# Altium footprint library HJ-185IMH PCB库.PcbLib: 1 footprints
Each footprint in its own frame and in the unit in brackets; x right, y up, seen from the top. Pads: shape width x height; smd on the part's side, far side on the other; paste and mask are expansions set on the pad; w line width, h text height; cw(c..) or ccw(c..) is an arc to the next point about the centre after c.
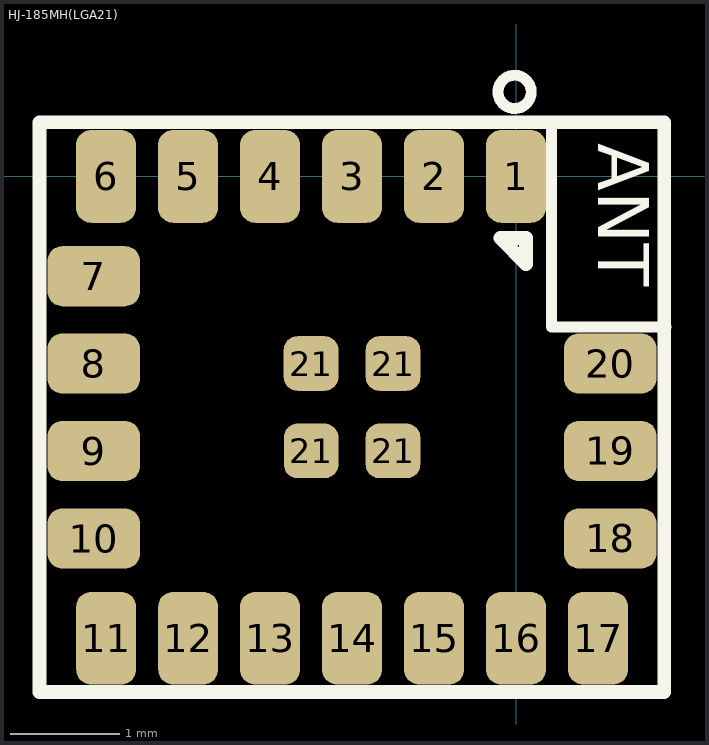
[diagram p0: the footprint, top view; thin cyan lines are the x and y axes]

## HJ-185MH(LGA21) [mm]
pads (24):
  rrect50% 0.55x0.85 smd mask+0: 1(0,0) 2(-0.75,0) 3(-1.501,0) 4(-2.251,0) 5(-3.002,0) 6(-3.752,0) 11(-3.751,-4.227) 12(-3.001,-4.227) 13(-2.25,-4.227) 14(-1.5,-4.227) 15(-0.75,-4.227) 16(0.001,-4.227) 17(0.751,-4.227)
  rrect50% 0.85x0.55 smd mask+0: 7(-3.865,-0.914) 8(-3.865,-1.714) 9(-3.865,-2.515) 10(-3.865,-3.315) 18(0.862,-3.313) 19(0.862,-2.513) 20(0.862,-1.713)
  rrect50% 0.5x0.5 smd mask+0: 21(-1.876,-1.713) 21(-1.875,-2.513) 21(-1.126,-2.513) 21(-1.126,-1.713)
Top Overlay:
  circle w0.1: c-0.013,0.773 r0.152
  lines w0.1: 1.362,0.499 0.325,0.499 0.325,-1.378 1.371,-1.378
  lines w0.127: -4.361,-4.721 -4.361,0.495 1.356,0.495 1.356,-4.721 -4.361,-4.721 ; -0.144,-0.565 0.092,-0.565 0.092,-0.801 -0.144,-0.565
  text "ANT" at 0.595,0.303 h0.8